# EAGLE library part LTC4121-4.2 (library BrownSpaceEngineering)
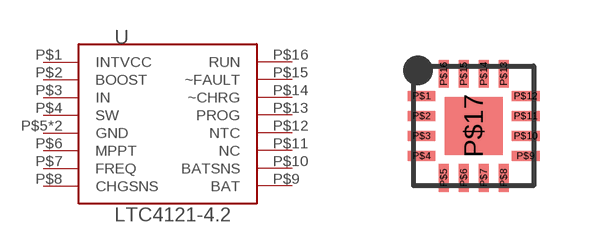
[diagram p25: symbol with the pads of QFN-16-PAD; footprint QFN-16-PAD]

Designator prefix U

## LTC4121-4.2  [QFN-16-PAD]
P$1  INTVCC
P$2  BOOST
P$3  IN
P$4  SW
P$5  GND
P$6  MPPT
P$7  FREQ
P$8  CHGSNS
P$9  BAT
P$10  BATSNS
P$11  NC
P$12  NTC
P$13  PROG
P$14  ~CHRG
P$15  ~FAULT
P$16  RUN
P$17  GND

## Footprint QFN-16-PAD (pad centres in mm)
smd 0.7 x 0.25: P$1 -1.3,0.75; P$2 -1.3,0.25; P$3 -1.3,-0.25; P$4 -1.3,-0.75; P$9 1.3,-0.75; P$10 1.3,-0.25; P$11 1.3,0.25; P$12 1.3,0.75
smd 0.25 x 0.7: P$5 -0.75,-1.3; P$6 -0.25,-1.3; P$7 0.25,-1.3; P$8 0.75,-1.3; P$13 0.75,1.3; P$14 0.25,1.3; P$15 -0.25,1.3; P$16 -0.75,1.3
smd 1.45 x 1.45: P$17 0,0